# Altium footprint library Pcblib_20110825.Pcblib: 407 footprints (part 9 of 26)
Each footprint in its own frame and in the unit in brackets; x right, y up, seen from the top. Pads: shape width x height; smd on the part's side, far side on the other; paste and mask are expansions set on the pad; w line width, h text height; cw(c..) or ccw(c..) is an arc to the next point about the centre after c.
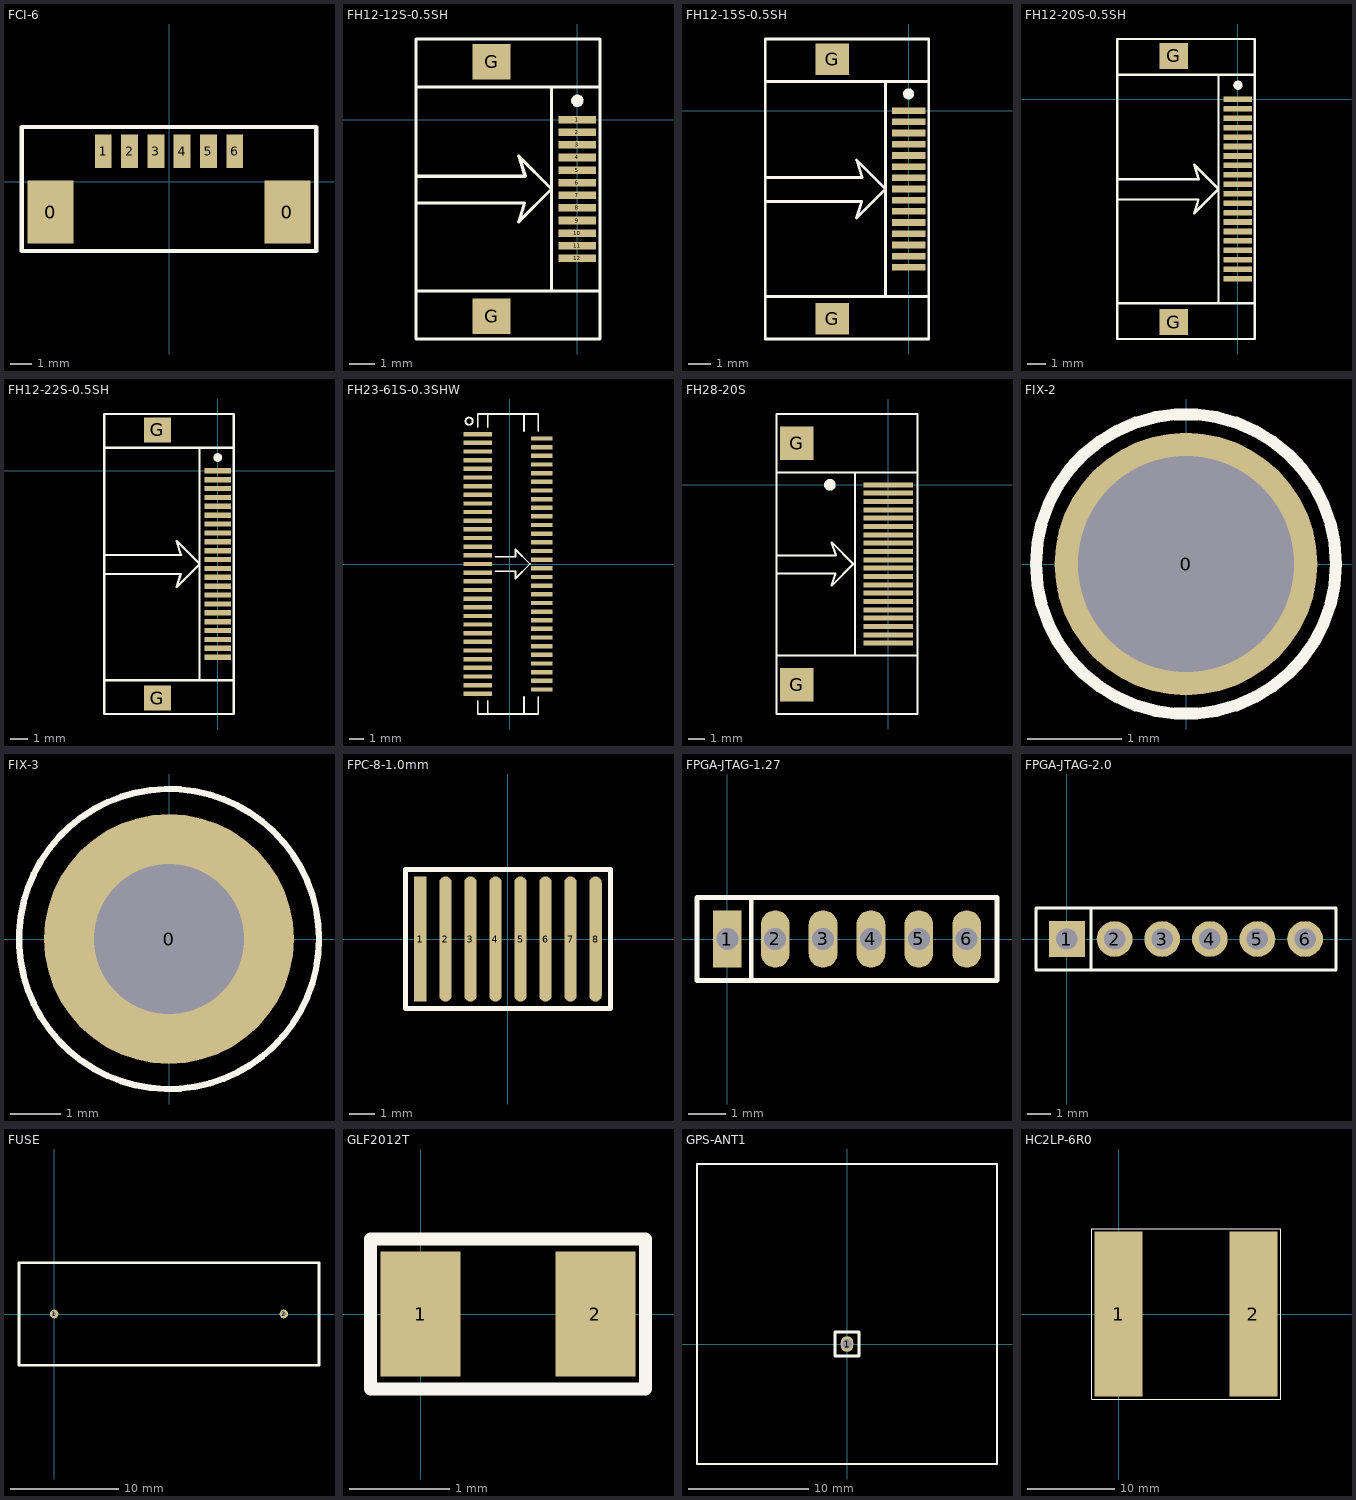
[diagram p8: the footprints below, top view; thin cyan lines are the x and y axes]

## FCI-6 [mm]
pads (8):
  rect 2.2x3 smd: 0(-5.625,-1.45) 0(5.625,-1.45)
  rect 0.8x1.6 smd: 1(-3.125,1.45) 2(-1.875,1.45) 3(-0.625,1.45) 4(0.625,1.45) 5(1.875,1.45) 6(3.125,1.45)
TopOverlay:
  lines w0.203: -7,-3.3 -7,2.6 7,2.6 7,-3.3 -7,-3.3

## FH12-12S-0.5SH [mm]
pads (15):
  rect 1.5x0.3 smd: 1(0,0) 2(0,-0.5) 3(0,-1) 4(0,-1.5) 5(0,-2) 6(0,-2.5) 7(0,-3) 8(0,-3.5) 9(0,-4) 10(0,-4.5) 11(0,-5) 12(0,-5.5)
  rect 1.5x1.4 smd: G(-3.4,-7.8) G(-3.4,2.3)
  round 0.5 on Top Overlay: ""(0,0.75)
TopOverlay:
  lines w0.127: -6.4,-6.8 0.9,-6.8 ; -6.4,-3.309 -2.092,-3.309 -2.32,-4.045 -1.025,-2.75 -2.32,-1.455 -2.066,-2.242 -6.4,-2.242 ; -6.4,1.3 0.9,1.3 ; -1.025,-6.8 -1.025,1.3 ; -6.4,-8.7 0.9,-8.7 0.9,3.2 -6.4,3.2 -6.4,-8.7

## FH12-15S-0.5SH [mm]
pads (18):
  rect 1.5x0.3 smd: 1(0,0) 2(0,-0.5) 3(0,-1) 4(0,-1.5) 5(0,-2) 6(0,-2.5) 7(0,-3) 8(0,-3.5) 9(0,-4) 10(0,-4.5) 11(0,-5) 12(0,-5.5) 13(0,-6) 14(0,-6.5) 15(0,-7)
  rect 1.5x1.4 smd: G(-3.4,-9.3) G(-3.4,2.3)
  round 0.5 on Top Overlay: ""(0,0.75)
TopOverlay:
  lines w0.127: -6.4,-8.3 0.9,-8.3 ; -6.4,-4.059 -2.092,-4.059 -2.32,-4.795 -1.025,-3.5 -2.32,-2.205 -2.066,-2.992 -6.4,-2.992 ; -6.4,1.3 0.9,1.3 ; -1.025,-8.3 -1.025,1.3 ; -6.4,-10.2 -6.4,3.2 0.9,3.2 0.9,-10.2 -6.4,-10.2

## FH12-20S-0.5SH [mm]
pads (23):
  rect 1.5x0.3 smd: 1(0,0) 2(0,-0.5) 3(0,-1) 4(0,-1.5) 5(0,-2) 6(0,-2.5) 7(0,-3) 8(0,-3.5) 9(0,-4) 10(0,-4.5) 11(0,-5) 12(0,-5.5) 13(0,-6) 14(0,-6.5) 15(0,-7) 16(0,-7.5) 17(0,-8) 18(0,-8.5) 19(0,-9) 20(0,-9.5)
  rect 1.5x1.4 smd: G(-3.4,-11.8) G(-3.4,2.3)
  round 0.5 on Top Overlay: ""(0,0.75)
TopOverlay:
  lines w0.127: -6.4,-10.8 0.9,-10.8 ; -6.4,-5.309 -2.092,-5.309 -2.32,-6.045 -1.025,-4.75 -2.32,-3.455 -2.066,-4.242 -6.4,-4.242 ; -6.4,1.3 0.9,1.3 ; -1.025,-10.8 -1.025,1.3 ; -6.4,-12.7 -6.4,3.2 0.9,3.2 0.9,-12.7 -6.4,-12.7

## FH12-22S-0.5SH [mm]
pads (25):
  rect 1.5x0.3 smd: 1(0,0) 2(0,-0.5) 3(0,-1) 4(0,-1.5) 5(0,-2) 6(0,-2.5) 7(0,-3) 8(0,-3.5) 9(0,-4) 10(0,-4.5) 11(0,-5) 12(0,-5.5) 13(0,-6) 14(0,-6.5) 15(0,-7) 16(0,-7.5) 17(0,-8) 18(0,-8.5) 19(0,-9) 20(0,-9.5) 21(0,-10) 22(0,-10.5)
  rect 1.5x1.4 smd: G(-3.4,-12.8) G(-3.4,2.3)
  round 0.5 on Top Overlay: ""(0,0.75)
TopOverlay:
  lines w0.127: -6.4,-11.8 0.9,-11.8 ; -6.4,-5.809 -2.092,-5.809 -2.32,-6.545 -1.025,-5.25 -2.32,-3.955 -2.066,-4.742 -6.4,-4.742 ; -6.4,1.3 0.9,1.3 ; -1.025,-11.8 -1.025,1.3 ; -6.4,-13.7 -6.4,3.2 0.9,3.2 0.9,-13.7 -6.4,-13.7

## FH23-61S-0.3SHW [mm]
pads (61):
  rect 2x0.3 smd: 1(-2.225,9) 3(-2.225,8.4) 5(-2.225,7.8) 7(-2.225,7.2) 9(-2.225,6.6) 11(-2.225,6) 13(-2.225,5.4) 15(-2.225,4.8) 17(-2.225,4.2) 19(-2.225,3.6) 21(-2.225,3) 23(-2.225,2.4) 25(-2.225,1.8) 27(-2.225,1.2) 29(-2.225,0.6) 31(-2.225,0) 33(-2.225,-0.6) 35(-2.225,-1.2) 37(-2.225,-1.8) 39(-2.225,-2.4) 41(-2.225,-3) 43(-2.225,-3.6) 45(-2.225,-4.2) 47(-2.225,-4.8) 49(-2.225,-5.4) 51(-2.225,-6) 53(-2.225,-6.6) 55(-2.225,-7.2) 57(-2.225,-7.8) 59(-2.225,-8.4) 61(-2.225,-9)
  rect 1.5x0.3 smd: 2(2.225,8.7) 4(2.225,8.1) 6(2.225,7.5) 8(2.225,6.9) 10(2.225,6.3) 12(2.225,5.7) 14(2.225,5.1) 16(2.225,4.5) 18(2.225,3.9) 20(2.225,3.3) 22(2.225,2.7) 24(2.225,2.1) 26(2.225,1.5) 28(2.225,0.9) 30(2.225,0.3) 32(2.225,-0.3) 34(2.225,-0.9) 36(2.225,-1.5) 38(2.225,-2.1) 40(2.225,-2.7) 42(2.225,-3.3) 44(2.225,-3.9) 46(2.225,-4.5) 48(2.225,-5.1) 50(2.225,-5.7) 52(2.225,-6.3) 54(2.225,-6.9) 56(2.225,-7.5) 58(2.225,-8.1) 60(2.225,-8.7)
TopOverlay:
  circle w0.127: c-2.825,9.9 r0.25
  lines w0.127: -2.225,-9.5 -2.225,-10.4 1.975,-10.4 1.975,-9.2 ; -2.225,9.5 -2.225,10.4 1.975,10.4 1.975,9.2 ; -1.525,-10.4 -1.525,-9.5 ; -1.525,9.5 -1.525,10.4 ; -1,-0.5 0.4,-0.5 0.4,-1 1.4,0 0.4,1 0.4,0.5 -1,0.5 ; 0.975,-10.4 0.975,-9.2 ; 0.975,9.2 0.975,10.4

## FH28-20S [mm]
pads (22):
  rect 3x0.3 smd: 1(0,0) 2(0,-0.5) 3(0,-1) 4(0,-1.5) 5(0,-2) 6(0,-2.5) 7(0,-3) 8(0,-3.5) 9(0,-4) 10(0,-4.5) 11(0,-5) 12(0,-5.5) 13(0,-6) 14(0,-6.5) 15(0,-7) 16(0,-7.5) 17(0,-8) 18(0,-8.5) 19(0,-9) 20(0,-9.5)
  rect 2x2 smd: G(-5.5,-12) G(-5.5,2.5)
TopOverlay:
  circle w0.5: c-3.5,0 r0.1
  lines w0.127: -6.7,-10.25 1.75,-10.25 ; -6.7,-5.309 -3.167,-5.309 -3.395,-6.045 -2.1,-4.75 -3.395,-3.455 -3.141,-4.242 -6.7,-4.242 ; -6.7,0.75 1.75,0.75 ; -2,-10.25 -2,0.75 ; -6.7,-13.75 1.75,-13.75 1.75,4.25 -6.7,4.25 -6.7,-13.75

## FIX-2 [mm]
pads (1):
  round 2.8 hole 2.3: 0(0,0)
TopOverlay:
  circle w0.127: c0,0 r1.6

## FIX-3 [mm]
pads (1):
  round 5 hole 3: 0(0,0)
TopOverlay:
  circle w0.127: c0,0 r3

## FPC-8-1.0mm [mm]
pads (8):
  rect 0.5x5 smd: 1(-3.5,0)
  oval 0.5x5 smd: 2(-2.5,0) 3(-1.5,0) 4(-0.5,0) 5(0.5,0) 6(1.5,0) 7(2.5,0) 8(3.5,0)
TopOverlay:
  lines w0.2: -4.1,-2.775 4.1,-2.775 4.1,2.775 -4.1,2.775 -4.1,-2.775

## FPGA-JTAG-1.27 [mil]
pads (6):
  rect 30x60 hole 23: 1(0,0)
  oval 30x60 hole 23: 2(50,0) 3(100,0) 4(150,0) 5(200,0) 6(250,0)
TopOverlay:
  lines w5: 25,-43.31 25,43.31 ; -31.69,-43.31 -31.69,43.31 281.69,43.31 281.69,-43.31 -31.69,-43.31

## FPGA-JTAG-2.0 [mm]
pads (6):
  rect 1.5x1.5 hole 0.9: 1(0,0)
  round 1.5 hole 0.9: 2(2,0) 3(4,0) 4(6,0) 5(8,0) 6(10,0)
TopOverlay:
  lines w0.127: 1,-1.3 1,1.3 ; -1.3,-1.3 11.3,-1.3 11.3,1.3 -1.3,1.3 -1.3,-1.3

## FUSE [mm]
pads (2):
  round 0.8 hole 0.4: 1(0,0) 2(21.3,0)
TopOverlay:
  lines w0.254: -3.25,-4.75 24.55,-4.75 24.55,4.75 -3.25,4.75 -3.25,-4.75

## GLF2012T [mm]
pads (2):
  rect 0.8x1.25 smd: 1(0,0) 2(1.75,0)
TopOverlay:
  lines w0.127: -0.5,-0.75 2.25,-0.75 2.25,0.75 -0.5,0.75 -0.5,-0.75

## GPS-ANT1 [mm]
pads (1):
  oval 1.05x1.3 hole 0.85: 1(0,0)
TopOverlay:
  lines w0.127: -12.5,-10 -12.5,15 12.5,15 12.5,-10 -12.5,-10
  lines w0.254: -1.016,-1.016 -1.016,1.016 1.016,1.016 1.016,-1.016 -1.016,-1.016

## HC2LP-6R0 [mm]
pads (2):
  rect 5.5x19 smd: 1(0,0) 2(15.5,0)
TopOverlay:
  lines w0.127: -3.099,-9.779 18.644,-9.779 18.644,9.779 -3.099,9.779 -3.099,-9.779